# Altium schematic symbol library LED or LCD.SchLib: 18 symbols
Pins are listed as number, name and electrical type; pins without a type are passive.

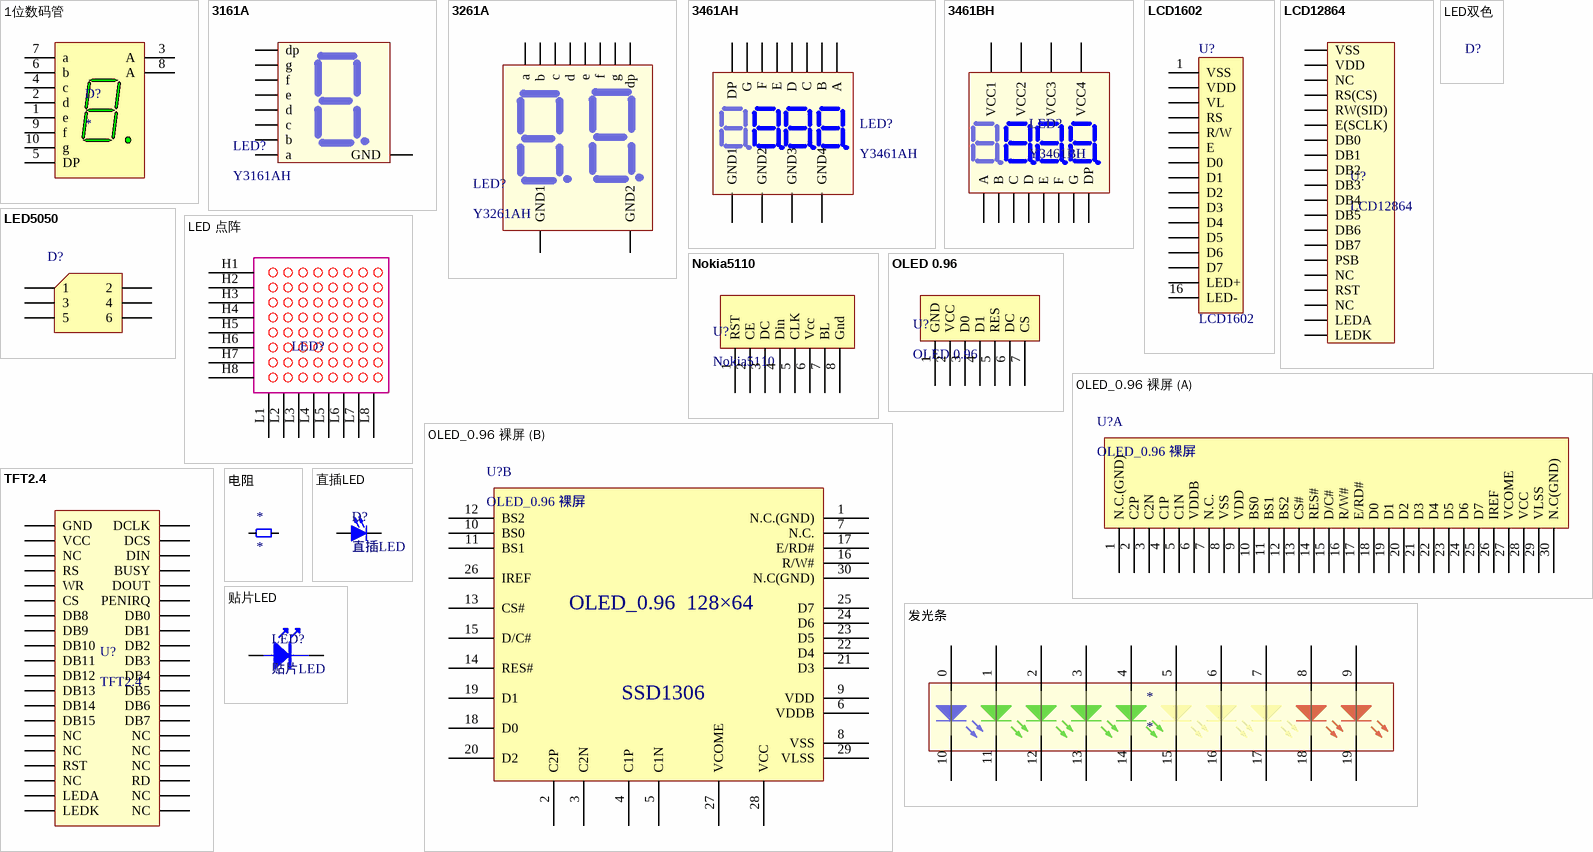
[diagram p0: symbols 1位数码管 to 贴片LED]

## 1位数码管
designator D?
footprint 0.56寸1位数码管
pins: 1 e "Cathode", 2 d "Cathode", 3 A "Anode", 4 c "Cathode", 5 DP "Cathode", 6 b "Cathode", 7 a "Cathode", 8 A "Anode", 9 f "Cathode", 10 g "Cathode"

## 3161A
designator LED?, comment Y3161AH
共阴
pins: 1 g, 2 dp, 3 a, 4 f, 5 GND, 6 d, 7 e, 9 c, 9 b

## 3261A
designator LED?, comment Y3261AH
共阴
footprint 0.36寸2位数码管
pins: 1 g, 2 dp, 3 a, 4 f, 5 GND2, 6 d, 7 e, 9 c, 9 b, 10 GND1

## 3461AH
designator LED?, comment Y3461AH
共阴0.36英寸
footprint 0.36寸4位数码管
pins: 1 E, 2 D, 3 DP, 4 C, 5 G, 6 GND4, 7 B, 8 GND3, 9 GND2, 10 F, 11 A, 12 GND1

## 3461BH
designator LED?, comment Y3461BH
共阳0.36英寸
footprint 0.36寸4位数码管
pins: 1 E, 2 D, 3 DP, 4 C, 5 G, 6 VCC4, 7 B, 8 VCC3, 9 VCC2, 10 F, 11 A, 12 VCC1

## LCD1602
designator U?
Header, 16-Pin; LatestRevisionDate: 17-Jul-2002; LatestRevisionNote: Re-released for DXP Platform.; Publisher: Altium Limited
footprint LCD1602
pins: 1 VSS, 2 VDD, 3 VL, 4 RS, 5 R/W, 6 E, 7 D0, 8 D1, 9 D2, 10 D3, 11 D4, 12 D5, 13 D6, 14 D7, 15 LED+, 16 LED-

## LCD12864
designator U?
液晶显示模块
footprint LCD12864 (2.54mm)
pins: 1 VSS, 2 VDD, 3 NC, 4 RS(CS), 5 RW(SID), 6 E(SCLK), 7 DB0, 8 DB1, 9 DB2, 10 DB3, 11 DB4, 12 DB5, 13 DB6, 14 DB7, 15 PSB, 16 NC, 17 RST, 18 NC, 19 LEDA, 20 LEDK

## LED5050
designator D?  (value not drawn)
footprint LED5050
pins: 1 (power), 2 (power), 3 (power), 4 (power), 5 (power), 6 (power)

## LED 点阵
designator LED?
footprint 32×32点阵
pins: H1 1, H2 2, H3 3, H4 4, H5 5, H6 6, H7 7, H8 8, L1 13, L2 14, L3 15, L4 16, L5 17, L6 18, L7 19, L8 20

## LED双色
designator D?, comment LED  (value not drawn)
footprint 3mmLED3Pin
footprint 5mmLED3Pin

## Nokia5110
designator U?
footprint 5110屏幕
pins: 1 RST, 2 CE, 3 DC, 4 Din, 5 CLK, 6 Vcc, 7 BL, 8 Gnd

## OLED 0.96
designator U?
footprint OLED 0.96
pins: 1 GND, 2 VCC, 3 D0, 4 D1, 5 RES, 6 DC, 7 CS

## OLED_0.96 裸屏
designator U?
footprint OLED_0.96 (128*64)
part A pins: 1 N.C.(GND), 2 C2P, 3 C2N, 4 C1P, 5 C1N, 6 VDDB, 7 N.C., 8 VSS, 9 VDD, 10 BS0, 11 BS1, 12 BS2, 13 CS#, 14 RES#, 15 D/C#, 16 R/W#, 17 E/RD#, 18 D0, 19 D1, 20 D2, 21 D3, 22 D4, 23 D5, 24 D6, 25 D7, 26 IREF, 27 VCOME, 28 VCC, 29 VLSS, 30 N.C(GND)
part B pins: 1 N.C.(GND), 2 C2P, 3 C2N, 4 C1P, 5 C1N, 6 VDDB, 7 N.C., 8 VSS, 9 VDD, 10 BS0, 11 BS1, 12 BS2, 13 CS#, 14 RES#, 15 D/C#, 16 R/W#, 17 E/RD#, 18 D0, 19 D1, 20 D2, 21 D3, 22 D4, 23 D5, 24 D6, 25 D7, 26 IREF, 27 VCOME, 28 VCC, 29 VLSS, 30 N.C(GND)
part B text: OLED_0.96  128×64; SSD1306

## TFT2.4
designator U?
LCD显示器+触摸
footprint TFT2.4彩屏 (2.54mm)
pins: 1 GND, 2 VCC, 3 NC, 4 RS, 5 WR, 6 CS, 7 DB8, 8 DB9, 9 DB10, 10 DB11, 11 DB12, 12 DB13, 13 DB14, 14 DB15, 15 NC, 16 NC, 17 RST, 18 NC, 19 LEDA, 20 LEDK, 21 DCLK, 22 DCS, 23 DIN, 24 BUSY, 25 DOUT, 26 PENIRQ, 27 DB0, 28 DB1, 29 DB2, 30 DB3, 31 DB4, 32 DB5, 33 DB6, 34 DB7, 35 NC, 36 NC, 37 NC, 38 RD, 39 NC, 40 NC

## 发光条
designator *
footprint LED发光条
pins: 0, 1, 2, 3, 4, 5, 6, 7, 8, 9, 10, 11, 12, 13, 14, 15, 16, 17, 18, 19

## 电阻
designator *
pins: ?1, ?2

## 直插LED
designator D?
footprint 3mmLED白色
footprint 3mmLED红色
footprint 3mmLED绿色
footprint 3mmLED黄色
footprint 5mmLED侧白
footprint 5mmLED红色
footprint 5mmLED绿色
footprint 5mmLED草帽白 (白色5mm草帽，直插LED)
footprint 5mmLED蓝色
footprint 5mmLED黄色
pins: 1 A, 2 K

## 贴片LED
designator LED?
footprint LED0603
footprint LED0805 (1/8W)
footprint LED0805红色
footprint LED0805白色
footprint LED0805绿色
footprint LED0805黄色
footprint LED1206 (红色1206LED)
footprint LED3528-1
pins: A 1, K 2